# EAGLE library part PH296-02 (library my_mixed)
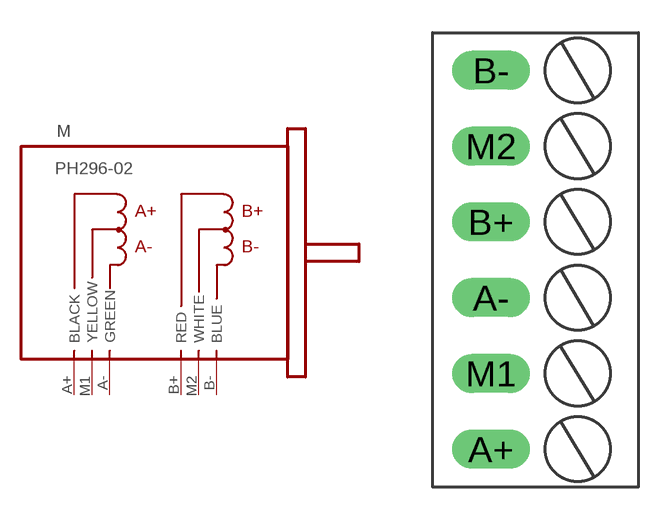
[diagram p18: symbol with the pads of PH296-02; footprint PH296-02]

Designator prefix M

## PH296-02  [PH296-02]
A+  BLACK  pas
A-  GREEN  pas
B+  RED  pas
B-  BLUE  pas
M1  YELLOW  pas
M2  WHITE  pas

## Footprint PH296-02 (pad centres in mm)
drill 1.2 long: A+ -1.27,-8.75; A- -1.27,-1.75; B+ -1.27,1.75; B- -1.27,8.75; M1 -1.27,-5.25; M2 -1.27,5.25